# Altium footprint library ElectroMechanical.PcbLib: 8 footprints
Each footprint in its own frame and in the unit in brackets; x right, y up, seen from the top. Pads: shape width x height; smd on the part's side, far side on the other; paste and mask are expansions set on the pad; w line width, h text height; cw(c..) or ccw(c..) is an arc to the next point about the centre after c.
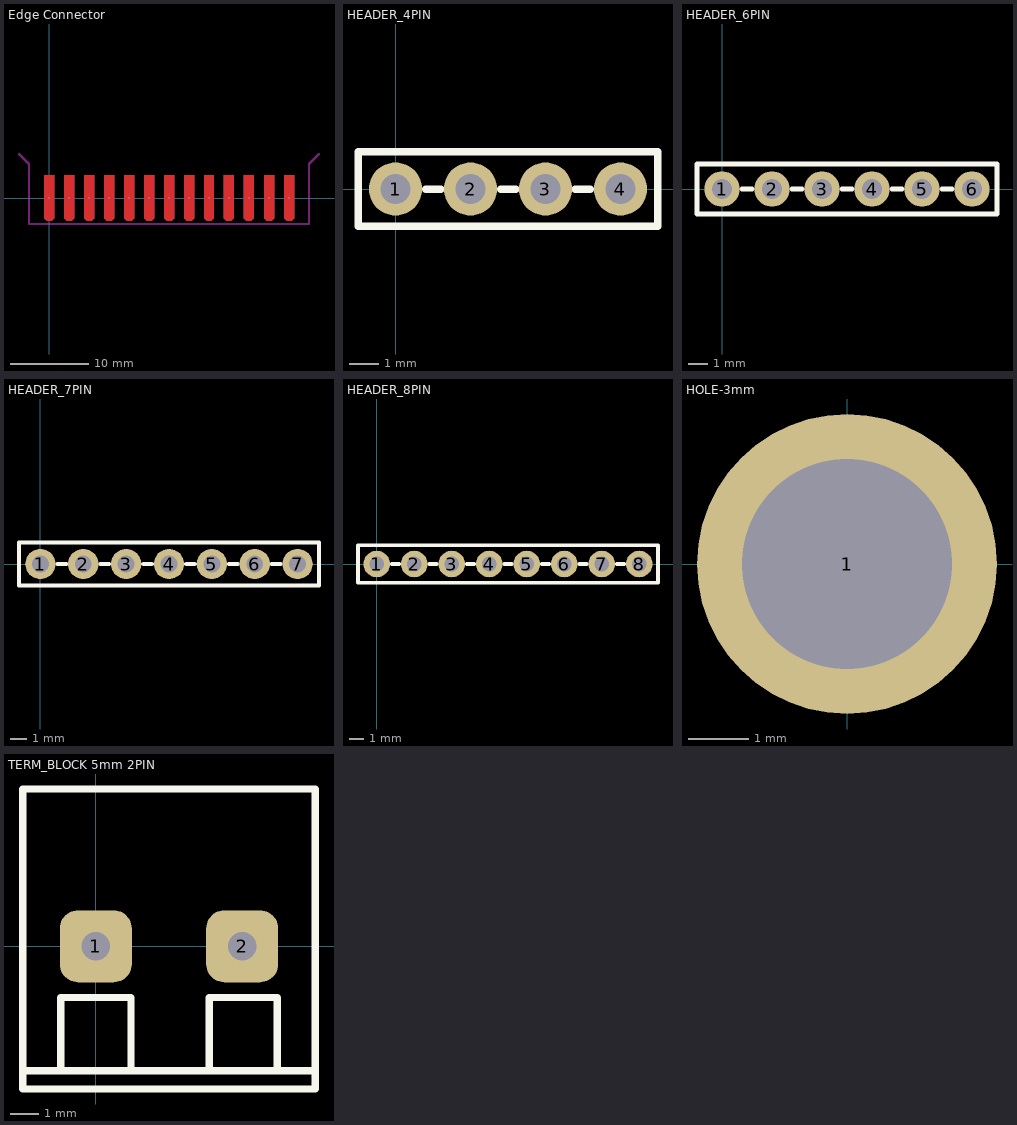
[diagram p0: the footprints below, top view; thin cyan lines are the x and y axes]

## Edge Connector [mil]
pads (26):
  round 1 smd: A1(0,0) A2(100,0) A3(200,0) A4(300,0) A5(400,0) A6(500,0) A7(600,0) A8(700,0) A9(800,0) A10(900,0) A11(1000,0) A12(1100,0) A13(1200,0)
  round 1 smd far side: B1(0,0) B2(100,0) B3(200,0) B4(300,0) B5(400,0) B6(500,0) B7(600,0) B8(700,0) B9(800,0) B10(900,0) B11(1000,0) B12(1100,0) B13(1200,0)
Top Layer:
  region: 1175,-101.67 1187.5,-114.17 1212.5,-114.17 1225,-101.67 1225,114.17 1175,114.17
  region: 1075,-101.67 1087.5,-114.17 1112.5,-114.17 1125,-101.67 1125,114.17 1075,114.17
  region: 975,-101.67 987.5,-114.17 1012.5,-114.17 1025,-101.67 1025,114.17 975,114.17
  region: 875,-101.67 887.5,-114.17 912.5,-114.17 925,-101.67 925,114.17 875,114.17
  region: 775,-101.67 787.5,-114.17 812.5,-114.17 825,-101.67 825,114.17 775,114.17
  region: 675,-101.67 687.5,-114.17 712.5,-114.17 725,-101.67 725,114.17 675,114.17
  region: 575,-101.67 587.5,-114.17 612.5,-114.17 625,-101.67 625,114.17 575,114.17
  region: 475,-101.67 487.5,-114.17 512.5,-114.17 525,-101.67 525,114.17 475,114.17
  region: 375,-101.67 387.5,-114.17 412.5,-114.17 425,-101.67 425,114.17 375,114.17
  region: 275,-101.67 287.5,-114.17 312.5,-114.17 325,-101.67 325,114.17 275,114.17
  region: 175,-101.67 187.5,-114.17 212.5,-114.17 225,-101.67 225,114.17 175,114.17
  region: 75,-101.67 87.5,-114.17 112.5,-114.17 125,-101.67 125,114.17 75,114.17
  region: -25,-101.67 -12.5,-114.17 12.5,-114.17 25,-101.67 25,114.17 -25,114.17
Bottom Layer:
  region: 1175,-101.67 1187.5,-114.17 1212.5,-114.17 1225,-101.67 1225,114.17 1175,114.17
  region: 1075,-101.67 1087.5,-114.17 1112.5,-114.17 1125,-101.67 1125,114.17 1075,114.17
  region: 975,-101.67 987.5,-114.17 1012.5,-114.17 1025,-101.67 1025,114.17 975,114.17
  region: 875,-101.67 887.5,-114.17 912.5,-114.17 925,-101.67 925,114.17 875,114.17
  region: 775,-101.67 787.5,-114.17 812.5,-114.17 825,-101.67 825,114.17 775,114.17
  region: 675,-101.67 687.5,-114.17 712.5,-114.17 725,-101.67 725,114.17 675,114.17
  region: 575,-101.67 587.5,-114.17 612.5,-114.17 625,-101.67 625,114.17 575,114.17
  region: 475,-101.67 487.5,-114.17 512.5,-114.17 525,-101.67 525,114.17 475,114.17
  region: 375,-101.67 387.5,-114.17 412.5,-114.17 425,-101.67 425,114.17 375,114.17
  region: 275,-101.67 287.5,-114.17 312.5,-114.17 325,-101.67 325,114.17 275,114.17
  region: 175,-101.67 187.5,-114.17 212.5,-114.17 225,-101.67 225,114.17 175,114.17
  region: 75,-101.67 87.5,-114.17 112.5,-114.17 125,-101.67 125,114.17 75,114.17
  region: -25,-101.67 -12.5,-114.17 12.5,-114.17 25,-101.67 25,114.17 -25,114.17
Top Solder:
  region: -100,170 1300,170 1300,-130 -100,-130
Bottom Solder:
  region: -100,170 1300,170 1300,-130 -100,-130
Keep-Out Layer:
  lines w10: -150,220 -100,170 -100,-130 1300,-130 1300,170 1350,220

## HEADER_4PIN [mm]
pads (4):
  round 1.8 hole 1: 1(0,0) 2(2.54,0) 3(5.08,0) 4(7.62,0)
Top Overlay:
  lines w0.254: 1.016,0 1.524,0 ; 3.556,0 4.064,0 ; 6.096,0 6.604,0 ; -1.27,-1.27 8.89,-1.27 8.89,1.27 -1.27,1.27 -1.27,-1.27
3D body "User Library-1x4 TH Pitch 2_54mm.STEP": height 9.2, standoff -3.5, extent -1.27,-1.27 8.89,1.27

## HEADER_6PIN [mm]
pads (6):
  round 1.8 hole 1: 1(0,0) 2(2.54,0) 3(5.08,0) 4(7.62,0) 5(10.16,0) 6(12.7,0)
Top Overlay:
  lines w0.254: 1.016,0 1.524,0 ; 3.556,0 4.064,0 ; 6.096,0 6.604,0 ; 8.636,0 9.144,0 ; 11.176,0 11.684,0 ; -1.27,-1.27 -1.27,1.27 13.97,1.27 13.97,-1.27 -1.27,-1.27
3D body "User Library-PLS-6-1.step": height 8.54, standoff -3, extent -1.27,-1.27 13.97,1.27

## HEADER_7PIN [mm]
pads (7):
  round 1.8 hole 1: 1(0,0) 2(2.54,0) 3(5.08,0) 4(7.62,0) 5(10.16,0) 6(12.7,0) 7(15.24,0)
Top Overlay:
  lines w0.254: 1.016,0 1.524,0 ; 3.556,0 4.064,0 ; 6.096,0 6.604,0 ; 8.636,0 9.144,0 ; 11.176,0 11.684,0 ; 13.716,0 14.224,0 ; -1.27,-1.27 16.51,-1.27 16.51,1.27 -1.27,1.27 -1.27,-1.27
3D body "User Library-PLS-7.step": height 8.54, standoff -3, extent -1.27,-1.219 16.51,1.321

## HEADER_8PIN [mm]
pads (8):
  round 1.8 hole 1: 1(0,0) 2(2.54,0) 3(5.08,0) 4(7.62,0) 5(10.16,0) 6(12.7,0) 7(15.24,0) 8(17.78,0)
Top Overlay:
  lines w0.254: 1.016,0 1.524,0 ; 3.556,0 4.064,0 ; 6.096,0 6.604,0 ; 8.636,0 9.144,0 ; 11.176,0 11.684,0 ; 13.716,0 14.224,0 ; 16.256,0 16.764,0 ; -1.27,-1.27 19.05,-1.27 19.05,1.27 -1.27,1.27 -1.27,-1.27
3D body "User Library-1x8 TH Pitch 2_54mm.STEP": height 9.2, standoff -3.5, extent -1.27,-1.27 19.05,1.27

## HOLE-3mm [mm]
pads (1):
  round 5 hole 3.5: 1(0,0)

## TE_26-PIN-edge-connector [mil] "5145274-1 TE Connectivity"

## TERM_BLOCK 5mm 2PIN [mm]
pads (2):
  rrect50% 2.5x2.5 hole 1: 1(0,0) 2(5.08,0)
Top Overlay:
  lines w0.254: -2.54,-4.318 7.62,-4.318 ; -1.219,-4.318 -1.219,-1.778 1.219,-1.778 1.219,-4.318 ; 3.937,-4.318 3.937,-1.778 6.299,-1.778 6.299,-4.318 ; -2.54,-4.953 -2.54,0 -2.54,5.461 7.62,5.461 7.62,-4.953 -2.54,-4.953
3D body "User Library-klema-5mm-2pin.step": height 14, standoff -4, extent -2.46,-5.039 7.54,5.461